# Altium integrated library WE-UOST Universal Offline Standard Transformers.IntLib: 8 symbols
Pins are listed as number, name and electrical type; pins without a type are passive.

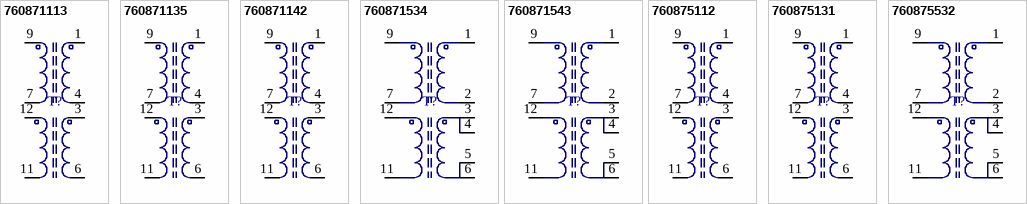
[diagram p0: symbols 760871113 to 760875532]

## 760871113
designator T?
SMD Universal Offline Standard Transformers WE-UOST, L=1310 µH; PartNumber: 760871113; Inductance: 1310 µH; Turns Ratio: 140; Output votage 1 & 2: 5V; Output Current: 1.25A; PackageReference: WE-UOST , EE16/8/5 , SMD; ComponentLink1Description: Manufacturer URL; ComponentLink1URL: http://www.we-online.com; ComponentLink2Description: Datasheet; ComponentLink2URL: http://katalog.we-online.de/pbs/datasheet/760871113.pdf
footprint WE-UOST , EE16/8/5 , SMD (SMD Transformer, 12-Leads, Body 25.81x 17.2 mm)
pins: 1, 3, 4, 6, 7, 9, 11, 12

## 760871135
designator T?
SMD Universal Offline Standard Transformers WE-UOST, L=1250 µH; PartNumber: 760871135; Inductance: 1250 µH; Turns Ratio: 136; Output votage 1 & 2: 12V; Output Current: 0.55A; PackageReference: WE-UOST , EE16/8/5 , SMD; ComponentLink1Description: Manufacturer URL; ComponentLink1URL: http://www.we-online.com; ComponentLink2Description: Datasheet; ComponentLink2URL: http://katalog.we-online.de/pbs/datasheet/760871135.pdf
footprint WE-UOST , EE16/8/5 , SMD (SMD Transformer, 12-Leads, Body 25.81x 17.2 mm)
pins: 1, 3, 4, 6, 7, 9, 11, 12

## 760871142
designator T?
SMD Universal Offline Standard Transformers WE-UOST, L=1250 µH; PartNumber: 760871142; Inductance: 1250 µH; Turns Ratio: 140; Output votage 1 & 2: 24V; Output Current: 0.28A; PackageReference: WE-UOST , EE16/8/5 , SMD; ComponentLink1Description: Manufacturer URL; ComponentLink1URL: http://www.we-online.com; ComponentLink2Description: Datasheet; ComponentLink2URL: http://katalog.we-online.de/pbs/datasheet/760871142.pdf
footprint WE-UOST , EE16/8/5 , SMD (SMD Transformer, 12-Leads, Body 25.81x 17.2 mm)
pins: 1, 3, 4, 6, 7, 9, 11, 12

## 760871534
designator T?
SMD Universal Offline Standard Transformers WE-UOST, L=1250 µH; PartNumber: 760871534; Inductance: 1250 µH; Turns Ratio: 140; Output votage 1: 12V; Output Current 1: 0.55A; Output votage 2: 5V; Output Current 2: 1.25A; PackageReference: WE-UOST , EE16/8/5 , SMD; ComponentLink1Description: Manufacturer URL; ComponentLink1URL: http://www.we-online.com; ComponentLink2Description: Datasheet; ComponentLink2URL: http://katalog.we-online.de/pbs/datasheet/760871534.pdf
footprint WE-UOST , EE16/8/5 , SMD (SMD Transformer, 12-Leads, Body 25.81x 17.2 mm)
pins: 1, 2, 3, 4, 5, 6, 7, 9, 11, 12

## 760871543
designator T?
SMD Universal Offline Standard Transformers WE-UOST, L=1310 µH; PartNumber: 760871543; Inductance: 1310 µH; Turns Ratio: 140; Output votage 1: 24V; Output Current 1: 0.30A; Output votage 2: 5V; Output Current 2: 1.15A; PackageReference: WE-UOST , EE16/8/5 , SMD; ComponentLink1Description: Manufacturer URL; ComponentLink1URL: http://www.we-online.com; ComponentLink2Description: Datasheet; ComponentLink2URL: http://katalog.we-online.de/pbs/datasheet/760871543.pdf
footprint WE-UOST , EE16/8/5 , SMD (SMD Transformer, 12-Leads, Body 25.81x 17.2 mm)
pins: 1, 2, 3, 4, 5, 6, 7, 9, 11, 12

## 760875112
designator T?
SMD Universal Offline Standard Transformers WE-UOST, L=1500 µH; PartNumber: 760875112; Inductance: 1500 µH; Turns Ratio: 160; Output votage 1 & 2: 5V; Output Current: 1.50A; PackageReference: WE-UOST , EE16/8/5 , SMD; ComponentLink1Description: Manufacturer URL; ComponentLink1URL: http://www.we-online.com; ComponentLink2Description: Datasheet; ComponentLink2URL: http://katalog.we-online.de/pbs/datasheet/760875112.pdf
footprint WE-UOST , EE16/8/5 , SMD (SMD Transformer, 12-Leads, Body 25.81x 17.2 mm)
pins: 1, 3, 4, 6, 7, 9, 11, 12

## 760875131
designator T?
SMD Universal Offline Standard Transformers WE-UOST, L=1500 µH; PartNumber: 760875131; Inductance: 1500 µH; Turns Ratio: 160; Output votage 1 & 2: 12V; Output Current: 0.65A; PackageReference: WE-UOST , EE16/8/5 , SMD; ComponentLink1Description: Manufacturer URL; ComponentLink1URL: http://www.we-online.com; ComponentLink2Description: Datasheet; ComponentLink2URL: http://katalog.we-online.de/pbs/datasheet/760875131.pdf
footprint WE-UOST , EE16/8/5 , SMD (SMD Transformer, 12-Leads, Body 25.81x 17.2 mm)
pins: 1, 3, 4, 6, 7, 9, 11, 12

## 760875532
designator T?
SMD Universal Offline Standard Transformers WE-UOST, L=1500 µH; PartNumber: 760875532; Inductance: 1500 µH; Turns Ratio: 160; Output votage 1: 12V; Output Current 1: 0.70A; Output votage 2: 5V; Output Current 2: 1.36A; PackageReference: WE-UOST , EE16/8/5 , SMD; ComponentLink1Description: Manufacturer URL; ComponentLink1URL: http://www.we-online.com; ComponentLink2Description: Datasheet; ComponentLink2URL: http://katalog.we-online.de/pbs/datasheet/760875532.pdf
footprint WE-UOST , EE16/8/5 , SMD (SMD Transformer, 12-Leads, Body 25.81x 17.2 mm)
pins: 1, 2, 3, 4, 5, 6, 7, 9, 11, 12